# Altium schematic symbol library Schlib.SchLib: 3 symbols
Pins are listed as number, name and electrical type; pins without a type are passive.

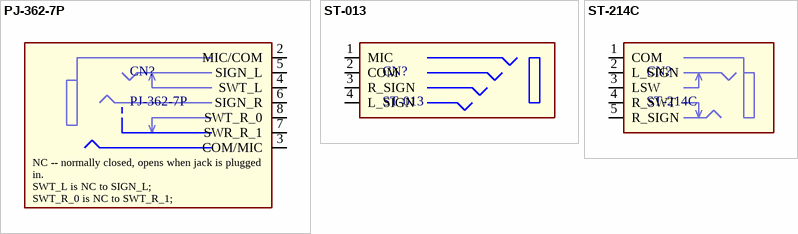
[diagram p0: symbols PJ-362-7P to ST-214C]

## PJ-362-7P
designator CN?
3.5mm jack RA TH 7P
footprint PJ-362-7P (3.5mm 7 Pin Stereo Audio socket for 4 poles Through hole right Angle)
pins: 2 MIC/COM, 3 COM/MIC, 4 SWT_L, 5 SIGN_L, 6 SIGN_R, 7 SWR_R_1, 8 SWT_R_0
text: NC -- normally closed, opens when jack is plugged in. / SWT_L is NC to SIGN_L; / SWT_R_0 is NC to SWT_R_1; / SWT_R_0 and SWT_R_1 are isolated from SIGN_R. /

## ST-013
designator CN?
3.5mm jack RA TH 4P
footprint ST-013
pins: 1 MIC, 2 COM, 3 R_SIGN, 4 L_SIGN

## ST-214C
designator CN?
3.5mm jack RA TH 3P
footprint ST-214C
pins: 1 COM, 2 L_SIGN, 3 LSW, 4 R_SWT, 5 R_SIGN